# EAGLE library part 4N (library Led verde)
Optocoupler, Phototransistor Output, with Base Connection Datasheet <https://www.vishay.com/docs/83725/4n25.pdf>
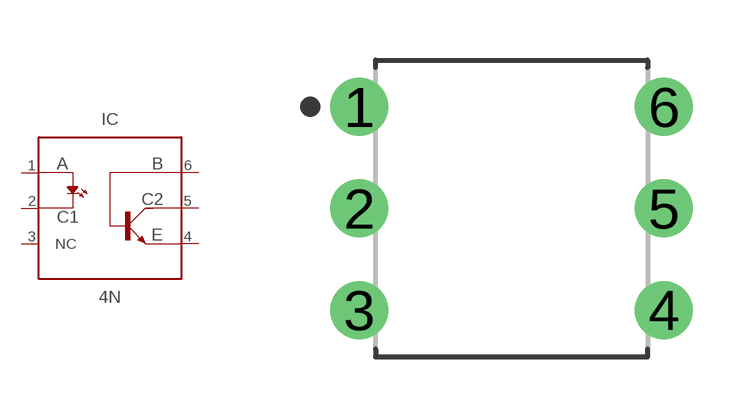
[diagram p1: symbol with the pads of DIP762W60P254L712H480Q6B; footprint DIP762W60P254L712H480Q6B]

Designator prefix IC

## 4N25 (CATEGORY: Opto-Electronic; DESCRIPTION: Optoisolator Transistor with Base Output 5000Vrms Channel 6-DIP; MANUFACTURER: Vishay; MPN: 4N25; OPERATING_TEMP: - 55°C to + 100 °C; PART_STATUS: Active; ROHS_COMPLIANT: COMPLIANT; SERIES: 4N2x; SUB-CATEGORY: Optocoupler; THERMALLOSS: 0.150 W), 4N26 (CATEGORY: Opto-Electronic; DESCRIPTION: Optoisolator Transistor with Base Output 5000Vrms 1 Channel 6-DIP; MANUFACTURER: Vishay; MPN: 4N26; OPERATING_TEMP: - 55°C to + 100 °C; PART_STATUS: Active; ROHS_COMPLIANT: COMPLIANT; SERIES: 4N2x; SUB-CATEGORY: Optocoupler; THERMALLOSS: 0.150 W), 4N27 (CATEGORY: Opto-Electronic; DESCRIPTION: OPTOISO 5KV TRANS W/BASE 6DIP; MANUFACTURER: Vishay; MPN: 4N27; OPERATING_TEMP: - 55°C to + 100 °C; PART_STATUS: Active; ROHS_COMPLIANT: COMPLIANT; SERIES: 4N2x; SUB-CATEGORY: Optocoupler; THERMALLOSS: 0.150 W), 4N28 (CATEGORY: Opto-Electronic; DESCRIPTION: Optoisolator Transistor with Base Output 5000Vrms Channel 6-DIP; MANUFACTURER: Vishay; MPN: 4N28; OPERATING_TEMP: - 55°C to + 100 °C; PART_STATUS: Active; ROHS_COMPLIANT: COMPLIANT; SERIES: 4N2x; SUB-CATEGORY: Optocoupler; THERMALLOSS: 0.150 W)  [DIP762W60P254L712H480Q6B]
1  A  pas
2  C1  pas
3  NC  nc
4  E  pas
5  C2  pas
6  B  pas

## Footprint DIP762W60P254L712H480Q6B (pad centres in mm)
6-DIP, 2.54 mm (0.10 in) pitch, 7.62 mm (0.30 in) span, 7.12 X 6.50 X 4.80 mm body 6-pin DIP package with 2.54 mm (0.10 in) pitch, 7.62 mm (0.30 in) span with body size 7.12 X 6.50 X 4.80 mm
drill 0.85 pad 1.45: 1 -3.81,2.54; 2 -3.81,0; 3 -3.81,-2.54; 4 3.81,-2.54; 5 3.81,0; 6 3.81,2.54